# EAGLE library part ESP03 (library chiptron_petus_cz)
ESP03
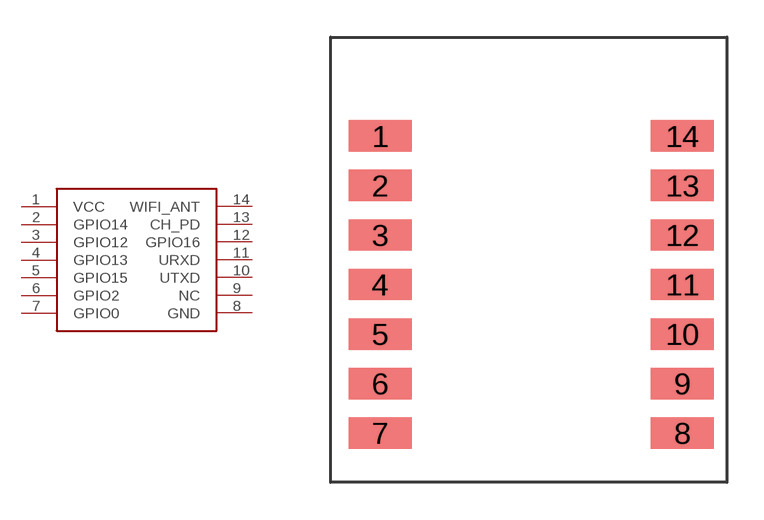
[diagram p16: symbol with the pads of ESP03; footprint ESP03]

Designator prefix -

## ESP03  [ESP03]
1  VCC
2  GPIO14
3  GPIO12
4  GPIO13
5  GPIO15
6  GPIO2
7  GPIO0
8  GND
9  NC
10  UTXD
11  URXD
12  GPIO16
13  CH_PD
14  WIFI_ANT

## Footprint ESP03 (pad centres in mm)
ESP03
smd 2.54 x 1.27: 1 0,0; 2 0,-2; 3 0,-4; 4 0,-6; 5 0,-8; 6 0,-10; 7 0,-12; 8 12.2,-12; 9 12.2,-10; 10 12.2,-8; 11 12.2,-6; 12 12.2,-4; 13 12.2,-2; 14 12.2,0